# Altium schematic symbol library integrated_circuits_schematic.SchLib: 128 symbols (part 4 of 5)
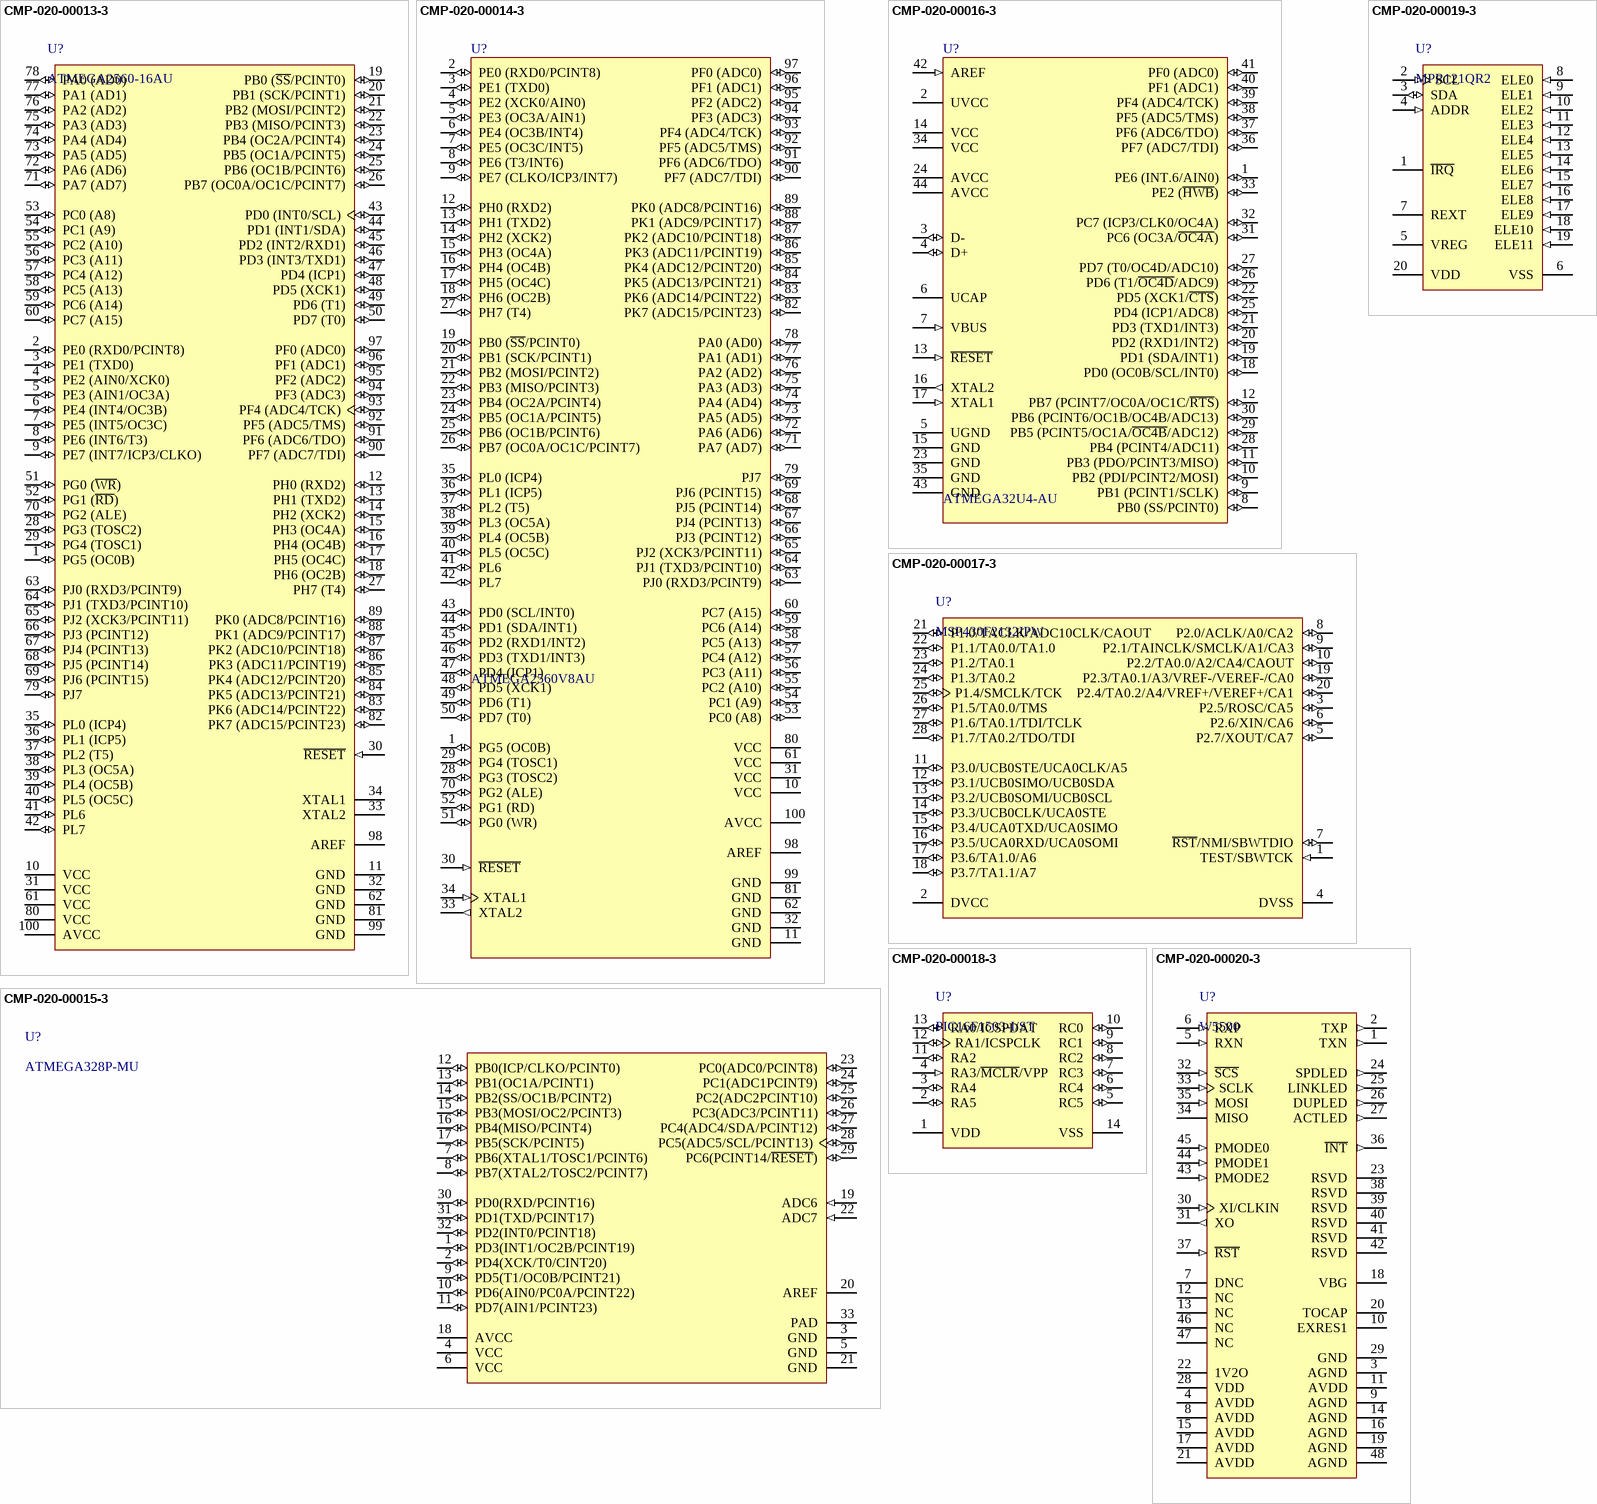
[diagram p10: symbols CMP-020-00013-3 to CMP-020-00020-3]

## CMP-020-00013-3
designator U?, comment ATMEGA2560-16AU
Atmel Microcontroller with 256 KB In-System Programmable Flash, 8-Bit , 4.5 to 5.5 V, -40 to 85 degC, 100-Pin QFP, Pb-Free, Tape and Reel; Density: 256KB; Max Clock Frequency: 16MHz; PWM Channels: 12; ADC Channels: 16; Nominal Supply Voltage: 5V; Interface: USART; Max Supply Voltage: 5.5V; Min Supply Voltage: 4.5V; I/Os: 86; Ethernet Channels: 0; RAM Size: 8KB; Datasheet URL: http://www.atmel.com/images/atmel-2549-8-bit-avr-microcontroller-atmega640-1280-1281-2560-2561_summary.pdf; Package Reference: 100A; RoHS Compliant: True; Pins: 100; Min Operating Temperature: -40°C; Max Operating Temperature: 85°C; Manufacturer: Atmel; Datasheet Version: Feb-14; Frequency: 16MHz; Package Quantity: 90; Packaging: Tray; Manufacturer URL: http://www.atmel.com/; Mounting Technology: SM; USB Channels: 0; Case/Package: TQFP; Package Description: 100-Pin Thin Profile Plastic Quad Flat Package, Body 14 x 14 mm, Pitch 0.5 mm
footprint ATML-100A_N (TQFP, 100-Leads, Body 14x14mm, Pitch 0.5mm, IPC Medium Density)
footprint ATML-100A_L (TQFP, 100-Leads, Body 14x14mm, Pitch 0.5mm, IPC High Density)
footprint ATML-100A_M (TQFP, 100-Leads, Body 14x14mm, Pitch 0.5mm, IPC Low Density)
pins: 1 PG5 (OC0B) (io), 2 PE0 (RXD0/PCINT8) (io), 3 PE1 (TXD0) (io), 4 PE2 (AIN0/XCK0) (io), 5 PE3 (AIN1/OC3A) (io), 6 PE4 (INT4/OC3B) (io), 7 PE5 (INT5/OC3C) (io), 8 PE6 (INT6/T3) (io), 9 PE7 (INT7/ICP3/CLKO) (io), 10 VCC (power) "Digital supply voltage", 11 GND (power) "Ground.", 12 PH0 (RXD2) (io), 13 PH1 (TXD2) (io), 14 PH2 (XCK2) (io), 15 PH3 (OC4A) (io), 16 PH4 (OC4B) (io), 17 PH5 (OC4C) (io), 18 PH6 (OC2B) (io), 19 PB0 (~{SS}/PCINT0) (io), 20 PB1 (SCK/PCINT1) (io), 21 PB2 (MOSI/PCINT2) (io), 22 PB3 (MISO/PCINT3) (io), 23 PB4 (OC2A/PCINT4) (io), 24 PB5 (OC1A/PCINT5) (io), 25 PB6 (OC1B/PCINT6) (io), 26 PB7 (OC0A/OC1C/PCINT7) (io), 27 PH7 (T4) (io), 28 PG3 (TOSC2) (io), 29 PG4 (TOSC1) (io), 30 ~{RESET} (in) "Reset input. A low level on this pin for longer than the minimum pulse length will generate a reset, even if the clock is not running. The minimum pulse length is given in “System and Reset Characteristics” on page 360. Shorter pulses are not guaranteed to generate a reset.", 31 VCC (power) "Digital supply voltage", 32 GND (power) "Ground.", 33 XTAL2 "Output from the inverting Oscillator amplifier.", 34 XTAL1 "Input to the inverting Oscillator amplifier and input to the internal clock operating circuit.", 35 PL0 (ICP4) (io), 36 PL1 (ICP5) (io), 37 PL2 (T5) (io), 38 PL3 (OC5A) (io), 39 PL4 (OC5B) (io), 40 PL5 (OC5C) (io), 41 PL6 (io) "Port L is a 8-bit bi-directional I/O port with internal pull-up resistors (selected for each bit). The Port L output buffers have symmetrical drive characteristics with both high sink and source capability. As inputs, Port L pins that are externally pulled low will source current if the pull-up resistors are activated. The Port L pins are tri-stated when a reset condition becomes active, even if the clock is not running. Port L also serves the functions of various special features of the ATmega640/1280/2560 as listed on page 94.", 42 PL7 (io) "Port L is a 8-bit bi-directional I/O port with internal pull-up resistors (selected for each bit). The Port L output buffers have symmetrical drive characteristics with both high sink and source capability. As inputs, Port L pins that are externally pulled low will source current if the pull-up resistors are activated. The Port L pins are tri-stated when a reset condition becomes active, even if the clock is not running. Port L also serves the functions of various special features of the ATmega640/1280/2560 as listed on page 94.", 43 PD0 (INT0/SCL) (io), 44 PD1 (INT1/SDA) (io), 45 PD2 (INT2/RXD1) (io), 46 PD3 (INT3/TXD1) (io), 47 PD4 (ICP1) (io), 48 PD5 (XCK1) (io), 49 PD6 (T1) (io), 50 PD7 (T0) (io), 51 PG0 (~{WR}) (io), 52 PG1 (~{RD}) (io), 53 PC0 (A8) (io), 54 PC1 (A9) (io), 55 PC2 (A10) (io), 56 PC3 (A11) (io), 57 PC4 (A12) (io), 58 PC5 (A13) (io), 59 PC6 (A14) (io), 60 PC7 (A15) (io), 61 VCC (power) "Digital supply voltage", 62 GND (power) "Ground.", 63 PJ0 (RXD3/PCINT9) (io), 64 PJ1 (TXD3/PCINT10) (io), 65 PJ2 (XCK3/PCINT11) (io), 66 PJ3 (PCINT12) (io), 67 PJ4 (PCINT13) (io), 68 PJ5 (PCINT14) (io), 69 PJ6 (PCINT15) (io), 70 PG2 (ALE) (io), 71 PA7 (AD7) (io), 72 PA6 (AD6) (io), 73 PA5 (AD5) (io), 74 PA4 (AD4) (io), 75 PA3 (AD3) (io), 76 PA2 (AD2) (io), 77 PA1 (AD1) (io), 78 PA0 (AD0) (io), 79 PJ7 (io) "Port J is a 8-bit bi-directional I/O port with internal pull-up resistors (selected for each bit). The Port J output buffers have symmetrical drive characteristics with both high sink and source capability. As inputs, Port J pins that are externally pulled low will source current if the pull-up resistors are activated. The Port J pins are tri-stated when a reset condition becomes active, even if the clock is not running. Port J also serves the functions of various special features of the ATmega640/1280/2560 as listed on page 90.", 80 VCC (power) "Digital supply voltage", 81 GND (power) "Ground.", 82 PK7 (ADC15/PCINT23) (io), 83 PK6 (ADC14/PCINT22) (io), 84 PK5 (ADC13/PCINT21) (io), 85 PK4 (ADC12/PCINT20) (io), 86 PK3 (ADC11/PCINT19) (io), 87 PK2 (ADC10/PCINT18) (io), 88 PK1 (ADC9/PCINT17) (io), 89 PK0 (ADC8/PCINT16) (io), 90 PF7 (ADC7/TDI) (io), 91 PF6 (ADC6/TDO) (io), 92 PF5 (ADC5/TMS) (io), 93 PF4 (ADC4/TCK) (io), 94 PF3 (ADC3) (io), 95 PF2 (ADC2) (io), 96 PF1 (ADC1) (io), 97 PF0 (ADC0) (io), 98 AREF "This is the analog reference pin for the A/D Converter.", 99 GND (power) "Ground.", 100 AVCC (power) "AVCC is the supply voltage pin for Port F and the A/D Converter. It should be externally connected to VCC, even if the ADC is not used. If the ADC is used, it should be connected to VCC through a low-pass filter."

## CMP-020-00014-3
designator U?, comment ATMEGA2560V8AU
Atmel Microcontroller, 8 bit, 256 KByte, 8 MHz, 1.8 to 5.5 V, 100-Pin TQFP, RoHS, Tape and Reel; Ethernet Channels: 0; I/Os: 86; Density: 256KB; ADC Channels: 16; Interface: USART; Max Clock Frequency: 8MHz; RAM Size: 8KB; Min Supply Voltage: 1.8V; Max Supply Voltage: 5.5V; Inputs: 86; Outputs: 86; Package Reference: 100A; Manufacturer: Atmel; RoHS Compliant: True; USB Channels: 0; Mounting Technology: SM; PWM Channels: 16; Manufacturer URL: http://www.atmel.com/; Datasheet Version: Rev. 2549Q, 02/2014; Case/Package: TQFP; Packaging: Tray; Min Operating Temperature: -40°C; Clock Frequency: 8MHz; Package Quantity: 90; Package Description: 100-Pin Thin Profile Plastic Quad Flat Package, Body 14 x 14 mm, Pitch 0.5 mm; Max Operating Temperature: 85°C; Datasheet URL: http://www.atmel.com/Images/Atmel-2549-8-bit-AVR-Microcontroller-ATmega640-1280-1281-2560-2561_datasheet.pdf; Frequency: 8MHz; Pins: 100; Programmable I/O: 86
footprint ATML-100A_N (TQFP, 100-Leads, Body 14x14mm, Pitch 0.5mm, IPC Medium Density)
footprint ATML-100A_L (TQFP, 100-Leads, Body 14x14mm, Pitch 0.5mm, IPC High Density)
footprint ATML-100A_M (TQFP, 100-Leads, Body 14x14mm, Pitch 0.5mm, IPC Low Density)
pins: 1 PG5 (OC0B) (io), 2 PE0 (RXD0/PCINT8) (io), 3 PE1 (TXD0) (io), 4 PE2 (XCK0/AIN0) (io), 5 PE3 (OC3A/AIN1) (io), 6 PE4 (OC3B/INT4) (io), 7 PE5 (OC3C/INT5) (io), 8 PE6 (T3/INT6) (io), 9 PE7 (CLKO/ICP3/INT7) (io), 10 VCC (power), 11 GND (power), 12 PH0 (RXD2) (io), 13 PH1 (TXD2) (io), 14 PH2 (XCK2) (io), 15 PH3 (OC4A) (io), 16 PH4 (OC4B) (io), 17 PH5 (OC4C) (io), 18 PH6 (OC2B) (io), 19 PB0 (~{SS}/PCINT0) (io), 20 PB1 (SCK/PCINT1) (io), 21 PB2 (MOSI/PCINT2) (io), 22 PB3 (MISO/PCINT3) (io), 23 PB4 (OC2A/PCINT4) (io), 24 PB5 (OC1A/PCINT5) (io), 25 PB6 (OC1B/PCINT6) (io), 26 PB7 (OC0A/OC1C/PCINT7) (io), 27 PH7 (T4) (io), 28 PG3 (TOSC2) (io), 29 PG4 (TOSC1) (io), 30 ~{RESET} (in), 31 VCC (power), 32 GND (power), 33 XTAL2 (out), 34 XTAL1 (in), 35 PL0 (ICP4) (io), 36 PL1 (ICP5) (io), 37 PL2 (T5) (io), 38 PL3 (OC5A) (io), 39 PL4 (OC5B) (io), 40 PL5 (OC5C) (io), 41 PL6 (io), 42 PL7 (io), 43 PD0 (SCL/INT0) (io), 44 PD1 (SDA/INT1) (io), 45 PD2 (RXD1/INT2) (io), 46 PD3 (TXD1/INT3) (io), 47 PD4 (ICP1) (io), 48 PD5 (XCK1) (io), 49 PD6 (T1) (io), 50 PD7 (T0) (io), 51 PG0 (WR) (io), 52 PG1 (RD) (io), 53 PC0 (A8) (io), 54 PC1 (A9) (io), 55 PC2 (A10) (io), 56 PC3 (A11) (io), 57 PC4 (A12) (io), 58 PC5 (A13) (io), 59 PC6 (A14) (io), 60 PC7 (A15) (io), 61 VCC (power), 62 GND (power), 63 PJ0 (RXD3/PCINT9) (io), 64 PJ1 (TXD3/PCINT10) (io), 65 PJ2 (XCK3/PCINT11) (io), 66 PJ3 (PCINT12) (io), 67 PJ4 (PCINT13) (io), 68 PJ5 (PCINT14) (io), 69 PJ6 (PCINT15) (io), 70 PG2 (ALE) (io), 71 PA7 (AD7) (io), 72 PA6 (AD6) (io), 73 PA5 (AD5) (io), 74 PA4 (AD4) (io), 75 PA3 (AD3) (io), 76 PA2 (AD2) (io), 77 PA1 (AD1) (io), 78 PA0 (AD0) (io), 79 PJ7 (io), 80 VCC (power), 81 GND (power), 82 PK7 (ADC15/PCINT23) (io), 83 PK6 (ADC14/PCINT22) (io), 84 PK5 (ADC13/PCINT21) (io), 85 PK4 (ADC12/PCINT20) (io), 86 PK3 (ADC11/PCINT19) (io), 87 PK2 (ADC10/PCINT18) (io), 88 PK1 (ADC9/PCINT17) (io), 89 PK0 (ADC8/PCINT16) (io), 90 PF7 (ADC7/TDI) (io), 91 PF6 (ADC6/TDO) (io), 92 PF5 (ADC5/TMS) (io), 93 PF4 (ADC4/TCK) (io), 94 PF3 (ADC3) (io), 95 PF2 (ADC2) (io), 96 PF1 (ADC1) (io), 97 PF0 (ADC0) (io), 98 AREF (power), 99 GND (power), 100 AVCC (power)

## CMP-020-00015-3
designator U?, comment ATMEGA328P-MU
MCU, 8-Bit, ATMEGA, 20 MHz, 1.8 to 5.5 V, -40 to 85 degC, 32-Pin QFN (32M1-A), RoHS; Manufacturer: Atmel; PWM Channels: 6; Frequency: 20MHz; Interface: USART; ADC Channels: 8; USB Channels: 0; RAM Size: 2KB; Min Supply Voltage: 1.8V; Max Supply Voltage: 5.5V; Density: 32KB; Package Version: Rev. E, 05/2006; I/Os: 23; Datasheet Version: Rev. 8271E, 07/2012; Package Description: 32-Pin Quad Flat No Lead Package, Body 5 x 5 mm, Pitch 0.5 mm, 3.1 x 3.1 mm Thermal Pad; Packaging: Tray; Package Reference: 32M1-A; Mounting Technology: SM; Package Quantity: 490; Ethernet Channels: 0; Pins: 32; RoHS Compliant: True; Max Operating Temperature: 85°C; Max Clock Frequency: 20MHz; Min Operating Temperature: -40°C; Case/Package: QFN; Manufacturer URL: http://www.atmel.com/; Clock Frequency: 20MHz; Datasheet URL: https://datasheet.ciiva.com/15122/getdatasheetpartid-130574-15122492.pdf
footprint ATML-32M1-A_D2-310_N (QFN, 32-Leads, Body 5.1x5.1mm, Pitch 0.5mm, Thermal Pad 3.1x3.1mm, IPC Medium Density)
footprint ATML-32M1-A_D2-310_L (QFN, 32-Leads, Body 5.1x5.1mm, Pitch 0.5mm, Thermal Pad 3.1x3.1mm, IPC High Density)
footprint ATML-32M1-A_D2-310_M (QFN, 32-Leads, Body 5.1x5.1mm, Pitch 0.5mm, Thermal Pad 3.1x3.1mm, IPC Low Density)
pins: 1 PD3(INT1/OC2B/PCINT19) (io), 2 PD4(XCK/T0/CINT20) (io), 3 GND (power), 4 VCC (power), 5 GND (power), 6 VCC (power), 7 PB6(XTAL1/TOSC1/PCINT6) (io), 8 PB7(XTAL2/TOSC2/PCINT7) (io), 9 PD5(T1/OC0B/PCINT21) (io), 10 PD6(AIN0/PC0A/PCINT22) (io), 11 PD7(AIN1/PCINT23) (io), 12 PB0(ICP/CLKO/PCINT0) (io), 13 PB1(OC1A/PCINT1) (io), 14 PB2(SS/OC1B/PCINT2) (io), 15 PB3(MOSI/OC2/PCINT3) (io), 16 PB4(MISO/PCINT4) (io), 17 PB5(SCK/PCINT5) (io), 18 AVCC (power), 19 ADC6 (in), 20 AREF, 21 GND (power), 22 ADC7 (in), 23 PC0(ADC0/PCINT8) (io), 24 PC1(ADC1PCINT9) (io), 25 PC2(ADC2PCINT10) (io), 26 PC3(ADC3/PCINT11) (io), 27 PC4(ADC4/SDA/PCINT12) (io), 28 PC5(ADC5/SCL/PCINT13) (io), 29 PC6(PCINT14/~{RESET}) (io), 30 PD0(RXD/PCINT16) (io), 31 PD1(TXD/PCINT17) (io), 32 PD2(INT0/PCINT18) (io), 33 PAD (power)

## CMP-020-00016-3
designator U?, comment ATMEGA32U4-AU
8-bit Microcontroller with 32 Kbytes of ISP Flash and USB Controller, 2.7 to 5.5 V, -40 to 85 degC, 44-Pin QFP, Tray; Manufacturer: Atmel; Max Supply Voltage: 5.5V; RAM Size: 2.5KB; Density: 32KB; ADC Channels: 12; I/Os: 26; Frequency: 16MHz; Interface: USART; PWM Channels: 8; Package Version: Rev. J, 02/2014; Ethernet Channels: 0; Min Supply Voltage: 2.7V; Package URL: http://www.atmel.com/images/atmel-7766-8-bit-avr-atmega16u4-32u4_summary.pdf; Manufacturer URL: http://www.atmel.com/; Max Operating Temperature: 85°C; Case/Package: TQFP; Pins: 44; Package Description: 44-Pin Thin Profile Plastic Quad Flat Papckage, Body 10 x 10 mm, Pitch 0.8 mm; Package Quantity: 800; Package Reference: 44ML; RoHS Compliant: True; Mounting Technology: SM; Max Clock Frequency: 16MHz; Packaging: Tray; Datasheet URL: http://www.atmel.com/images/atmel-7766-8-bit-avr-atmega16u4-32u4_summary.pdf; Datasheet Version: Rev. 7766IS, 07/2015; Min Operating Temperature: -40°C
footprint ATML-44ML_L (TQFP, 44-Leads, Body 10x10mm, Pitch 0.8mm, IPC High Density)
footprint ATML-44ML_N (TQFP, 44-Leads, Body 10x10mm, Pitch 0.8mm, IPC Medium Density)
footprint ATML-44ML_M (TQFP, 44-Leads, Body 10x10mm, Pitch 0.8mm, IPC Low Density)
pins: 1 PE6 (INT.6/AIN0) (io), 2 UVCC (power), 3 D- (io), 4 D+ (io), 5 UGND (power), 6 UCAP, 7 VBUS (in), 8 PB0 (SS/PCINT0) (io), 9 PB1 (PCINT1/SCLK) (io), 10 PB2 (PDI/PCINT2/MOSI) (io), 11 PB3 (PDO/PCINT3/MISO) (io), 12 PB7 (PCINT7/OC0A/OC1C/~{RTS}) (io), 13 ~{RESET} (in), 14 VCC (power), 15 GND (power), 16 XTAL2 (out), 17 XTAL1 (in), 18 PD0 (OC0B/SCL/INT0) (io), 19 PD1 (SDA/INT1) (io), 20 PD2 (RXD1/INT2) (io), 21 PD3 (TXD1/INT3) (io), 22 PD5 (XCK1/~{CTS}) (io), 23 GND (power), 24 AVCC (power), 25 PD4 (ICP1/ADC8) (io), 26 PD6 (T1/~{OC4D}/ADC9) (io), 27 PD7 (T0/OC4D/ADC10) (io), 28 PB4 (PCINT4/ADC11) (io), 29 PB5 (PCINT5/OC1A/~{OC4B}/ADC12) (io), 30 PB6 (PCINT6/OC1B/OC4B/ADC13) (io), 31 PC6 (OC3A/~{OC4A}) (io), 32 PC7 (ICP3/CLK0/OC4A) (io), 33 PE2 (~{HWB}) (io), 34 VCC (power), 35 GND (power), 36 PF7 (ADC7/TDI) (io), 37 PF6 (ADC6/TDO) (io), 38 PF5 (ADC5/TMS) (io), 39 PF4 (ADC4/TCK) (io), 40 PF1 (ADC1) (io), 41 PF0 (ADC0) (io), 42 AREF (in), 43 GND (power), 44 AVCC (power)

## CMP-020-00017-3
designator U?, comment MSP430F2132IPW
Mixed Signal Microcontroller with 8 KB Flash, 512 B SRAM and 24 GPIOs, -40 to 85 degC, 28-Pin SOP (PW), Green (RoHS & no Sb/Br); Manufacturer: Texas Instruments; Interface: UART; ADC Channels: 8; USB Channels: 0; Density: 8KB; Max Supply Voltage: 3.6V; I/Os: 24; Max Clock Frequency: 16MHz; Min Supply Voltage: 1.8V; RAM Size: 512B; UART Channels: 1; Package Reference: PW0028A; Mounting Technology: SM; Manufacturer URL: http://www.ti.com/; Case/Package: TSSOP; Max Operating Temperature: 85°C; Package Quantity: 50; Pins: 28; Package URL: http://www.ti.com/lit/ml/mpds364/mpds364.pdf; Datasheet Version: SLAS578J, 01/2012; Package Description: 28-Pin Thin Shrink Small Outline Package, Body 9.7 x 4.4 mm, Pitch 0.65 mm; Frequency: 16MHz; RoHS Compliant: True; Packaging: Rail/Tube; Min Operating Temperature: -40°C; Datasheet URL: http://www.ti.com/lit/ds/symlink/msp430f2132.pdf
footprint PW0028A_L (SOP, 28-Leads, Body 9.8x4.5mm, Pitch 0.65mm, IPC High Density)
footprint PW0028A_M (SOP, 28-Leads, Body 9.8x4.5mm, Pitch 0.65mm, IPC Low Density)
footprint PW0028A_N (SOP, 28-Leads, Body 9.8x4.5mm, Pitch 0.65mm, IPC Medium Density)
pins: 1 TEST/SBWTCK (in), 2 DVCC (power) "Digital supply voltage", 3 P2.5/ROSC/CA5 (io), 4 DVSS (power) "Digital supply voltage", 5 P2.7/XOUT/CA7 (io), 6 P2.6/XIN/CA6 (io), 7 ~{RST}/NMI/SBWTDIO (io), 8 P2.0/ACLK/A0/CA2 (io), 9 P2.1/TAINCLK/SMCLK/A1/CA3 (io), 10 P2.2/TA0.0/A2/CA4/CAOUT (io), 11 P3.0/UCB0STE/UCA0CLK/A5 (io), 12 P3.1/UCB0SIMO/UCB0SDA (io), 13 P3.2/UCB0SOMI/UCB0SCL (io), 14 P3.3/UCB0CLK/UCA0STE (io), 15 P3.4/UCA0TXD/UCA0SIMO (io), 16 P3.5/UCA0RXD/UCA0SOMI (io), 17 P3.6/TA1.0/A6 (io), 18 P3.7/TA1.1/A7 (io), 19 P2.3/TA0.1/A3/VREF-/VEREF-/CA0 (io), 20 P2.4/TA0.2/A4/VREF+/VEREF+/CA1 (io), 21 P1.0/TACLK/ADC10CLK/CAOUT (io), 22 P1.1/TA0.0/TA1.0 (io), 23 P1.2/TA0.1 (io), 24 P1.3/TA0.2 (io), 25 P1.4/SMCLK/TCK (io), 26 P1.5/TA0.0/TMS (io), 27 P1.6/TA0.1/TDI/TCLK (io), 28 P1.7/TA0.2/TDO/TDI (io)

## CMP-020-00018-3
designator U?, comment PIC16F1503-I/ST
Flash, 8-Bit Microcontroller, 20 MHz, 2.3 to 5.5 V, -40 to 85 degC, 14-pin TSSOP (ST14), RoHS, Tube; Manufacturer: Microchip; PWM Channels: 4; USB Channels: 0; Power: 800mW; Frequency: 20MHz; Min Supply Voltage: 2.3V; Ethernet Channels: 1; Density: 3.5KB; Programmable I/O: 12; Max Supply Voltage: 5.5V; Interface: SPI; RAM Size: 128B; Package Version: C04-087C, 10/2016; ADC Channels: 10; Pins: 14; Package Description: 14-Lead Thin Shrink Small Outline Package, 5 x 4.4 mm Body, 0.65 mm Pitch; Package URL: http://www.microchip.com/stellent/groups/techpub_sg/documents/packagingspec/en012702.pdf; Package Reference: TSSOP-ST14; Mounting Technology: SM; Datasheet Version: Rev. A, 09/2011; Datasheet URL: http://ww1.microchip.com/downloads/en/DeviceDoc/41607A.pdf; Case/Package: TSSOP; Manufacturer URL: http://www.microchip.com/; I/Os: 12; Max Operating Temperature: 85°C; Max Clock Frequency: 20MHz; RoHS Compliant: True; Packaging: Rail/Tube; Min Operating Temperature: -40°C
footprint MCHP-TSSOP-ST14_V (TSSOP, 14-Leads, Body 5.1x4.5mm, Pitch 0.65mm)
pins: 1 VDD (power) "Positive supply", 2 RA5 (io), 3 RA4 (io), 4 RA3/~{MCLR}/VPP (in), 5 RC5 (io), 6 RC4 (io), 7 RC3 (io), 8 RC2 (io), 9 RC1 (io), 10 RC0 (io), 11 RA2 (io), 12 RA1/ICSPCLK (io), 13 RA0/ICSPDAT (io), 14 VSS (power) "Ground reference."

## CMP-020-00019-3
designator U?, comment MPR121QR2
Proximity Capacitive Touch Sensor Controller, 1.71 to 3.6 V, -40 to 85 degC, 20-Pin QFN, RoHS, Tape and Reel; Manufacturer: Freescale; Max Supply Voltage: 3.6V; Min Supply Voltage: 1.71V; Nominal Supply Voltage: 2.5V; Interface: I2C; Load Capacitance: 400pF; Manufacturer URL: http://www.nxp.com/; Min Operating Temperature: -40°C; Max Operating Temperature: 85°C; RoHS Compliant: True; Datasheet URL: http://www.nxp.com/files/sensors/doc/data_sheet/MPR121.pdf; Case/Package: QFN; Packaging: CutTape; Mounting Technology: SM; Package Quantity: 1; Datasheet Version: Rev. 4, 02/2013; Package Description: 20-Pin Quad Flat No-lead Package, Body 3 x 3 mm, Pitch 0.4 mm; Package Reference: QFN-20; Pins: 20
footprint FREE-QFN-20_L (QFN, 20-Leads, Body 3x3mm, Pitch 0.4mm, IPC High Density)
footprint FREE-QFN-20_M (QFN, 20-Leads, Body 3x3mm, Pitch 0.4mm, IPC Low Density)
footprint FREE-QFN-20_N (QFN, 20-Leads, Body 3x3mm, Pitch 0.4mm, IPC Medium Density)
pins: 1 ~{IRQ} (oc) "Open Collector Interrupt Output Pin, active low", 2 SCL (in) "I2C Clock", 3 SDA (io) "I2C Data", 4 ADDR (in) "I2C Address Select Input Pin.", 5 VREG (power) "Internal Regulator Node - Connect a 0.1 uF bypass cap to VSS", 6 VSS (power) "Ground", 7 REXT "External Resistor - Connect a 75 kOhm 1% resistor to VSS to set internal reference current", 8 ELE0 (in) "Electrode 0", 9 ELE1 (in) "Electrode 1", 10 ELE2 (in) "Electrode 2", 11 ELE3 (in) "Electrode 3", 12 ELE4 (in) "Electrode 4", 13 ELE5 (in) "Electrode 5", 14 ELE6 (in) "Electrode 6", 15 ELE7 (in) "Electrode 7", 16 ELE8 (in) "Electrode 8", 17 ELE9 (in) "Electrode 9", 18 ELE10 (in) "Electrode 10", 19 ELE11 (in) "Electrode 11", 20 VDD (power) "Connect a 0.1 uF bypass cap to VSS"

## CMP-020-00020-3
designator U?, comment W5500
Hardwired TCP/IP Embedded Ethernet Controller, 3.3 V, 25 MHz, -40 to 85 degC, 48-Pin LQFP, RoHS, Tray; Manufacturer: WIZnet; Interface: SPI; Min Supply Voltage: 2.97V; Max Supply Voltage: 3.63V; Package Quantity: 250; Package Description: 48-Pin Low-profile Quad Flat Package, Body 7.00 x 7.00 mm, Pitch 0.50 mm; Package Reference: LQFP-48; Case/Package: LQFP; RoHS Compliant: True; Mounting Technology: SM; Datasheet URL: http://wizwiki.net/wiki/lib/exe/fetch.php?media=products:w5500:w5500_ds_v106e_141230.pdf; Manufacturer URL: http://www.wiznet.co.kr/; Packaging: Tray; Min Operating Temperature: -40°C; Pins: 48; Datasheet Version: Rev. 1.0.6, 12/2014; Max Operating Temperature: 85°C
footprint WIZ-W5500-LQFP-48_M (LQFP, 48-Leads, Body 7.00x7.00mm, Pitch 0.50mm, IPC Low Density)
footprint WIZ-W5500-LQFP-48_N (LQFP, 48-Leads, Body 7.00x7.00mm, Pitch 0.50mm, IPC Medium Density)
footprint WIZ-W5500-LQFP-48_L (LQFP, 48-Leads, Body 7.00x7.00mm, Pitch 0.50mm, IPC High Density)
pins: 1 TXN (out) "TXP/TXN Signal Pair", 2 TXP (out) "TXP/TXN Signal Pair", 3 AGND (power) "Analog ground", 4 AVDD (power) "Analog 3.3V power", 5 RXN (in) "RXP/RXN Signal Pair", 6 RXP (in) "RXP/RXN Signal Pair", 7 DNC "Do Not Connect Pin", 8 AVDD (power) "Analog 3.3V power", 9 AGND (power) "Analog ground", 10 EXRES1 "External Reference Resistor", 11 AVDD (power) "Analog 3.3V power", 12 NC "Not connected", 13 NC "Not connected", 14 AGND (power) "Analog ground", 15 AVDD (power) "Analog 3.3V power", 16 AGND (power) "Analog ground", 17 AVDD (power) "Analog 3.3V power", 18 VBG "Band Gap Output Voltage, This pin will be measured as 1.2V at 25 degC. It must be left floating.", 19 AGND (power) "Analog ground", 20 TOCAP "External Reference Capacitor, This pin must be connected to a 4.7uF capacitor. The trace length to capacitor should be short to stabilize the internal signals.", 21 AVDD (power) "Analog 3.3V power", 22 1V2O (power) "1.2V Regulator output voltage", 23 RSVD "It must be tied to GND.", 24 SPDLED (out) "Speed LED, This shows the Speed status of the connected link.", 25 LINKLED (out) "Link LED, This shows the Link status.", 26 DUPLED (out) "Duplex LED, This shows the Duplex status for the connected link.", 27 ACTLED (out) "Active LED, This shows that there is Carrier sense (CRS) from the active Physical Medium Sub-layer (PMD) during TX or RX activity.", 28 VDD (power) "Digital 3.3V Power", 29 GND (power) "Digital Ground", 30 XI/CLKIN (in) "Crystal input / External Clock input", 31 XO (out) "Crystal output, External 25MHz Crystal Output", 32 ~{SCS} (in) "Chip Select for SPI bus, This pin can be asserted low to select W5500 in SPI interface.", 33 SCLK (in) "SPI clock input, This pin is used to receive SPI Clock from SPI master.", 34 MISO (hiz) "SPI master input slave(W5500) output", 35 MOSI (in) "SPI master output slave(W5500) input", 36 ~{INT} (out) "Interrupt output", 37 ~{RST} (in) "Reset, RESET should be held low at least 500 us for W5500 reset.", 38 RSVD "Not connected", 39 RSVD "Not connected", 40 RSVD "Not connected", 41 RSVD "Not connected", 42 RSVD "Not connected", 43 PMODE2 (in) "PHY Operation mode select pin", 44 PMODE1 (in) "PHY Operation mode select pin", 45 PMODE0 (in) "PHY Operation mode select pin", 46 NC "Not connected", 47 NC "Not connected", 48 AGND (power) "Analog ground"

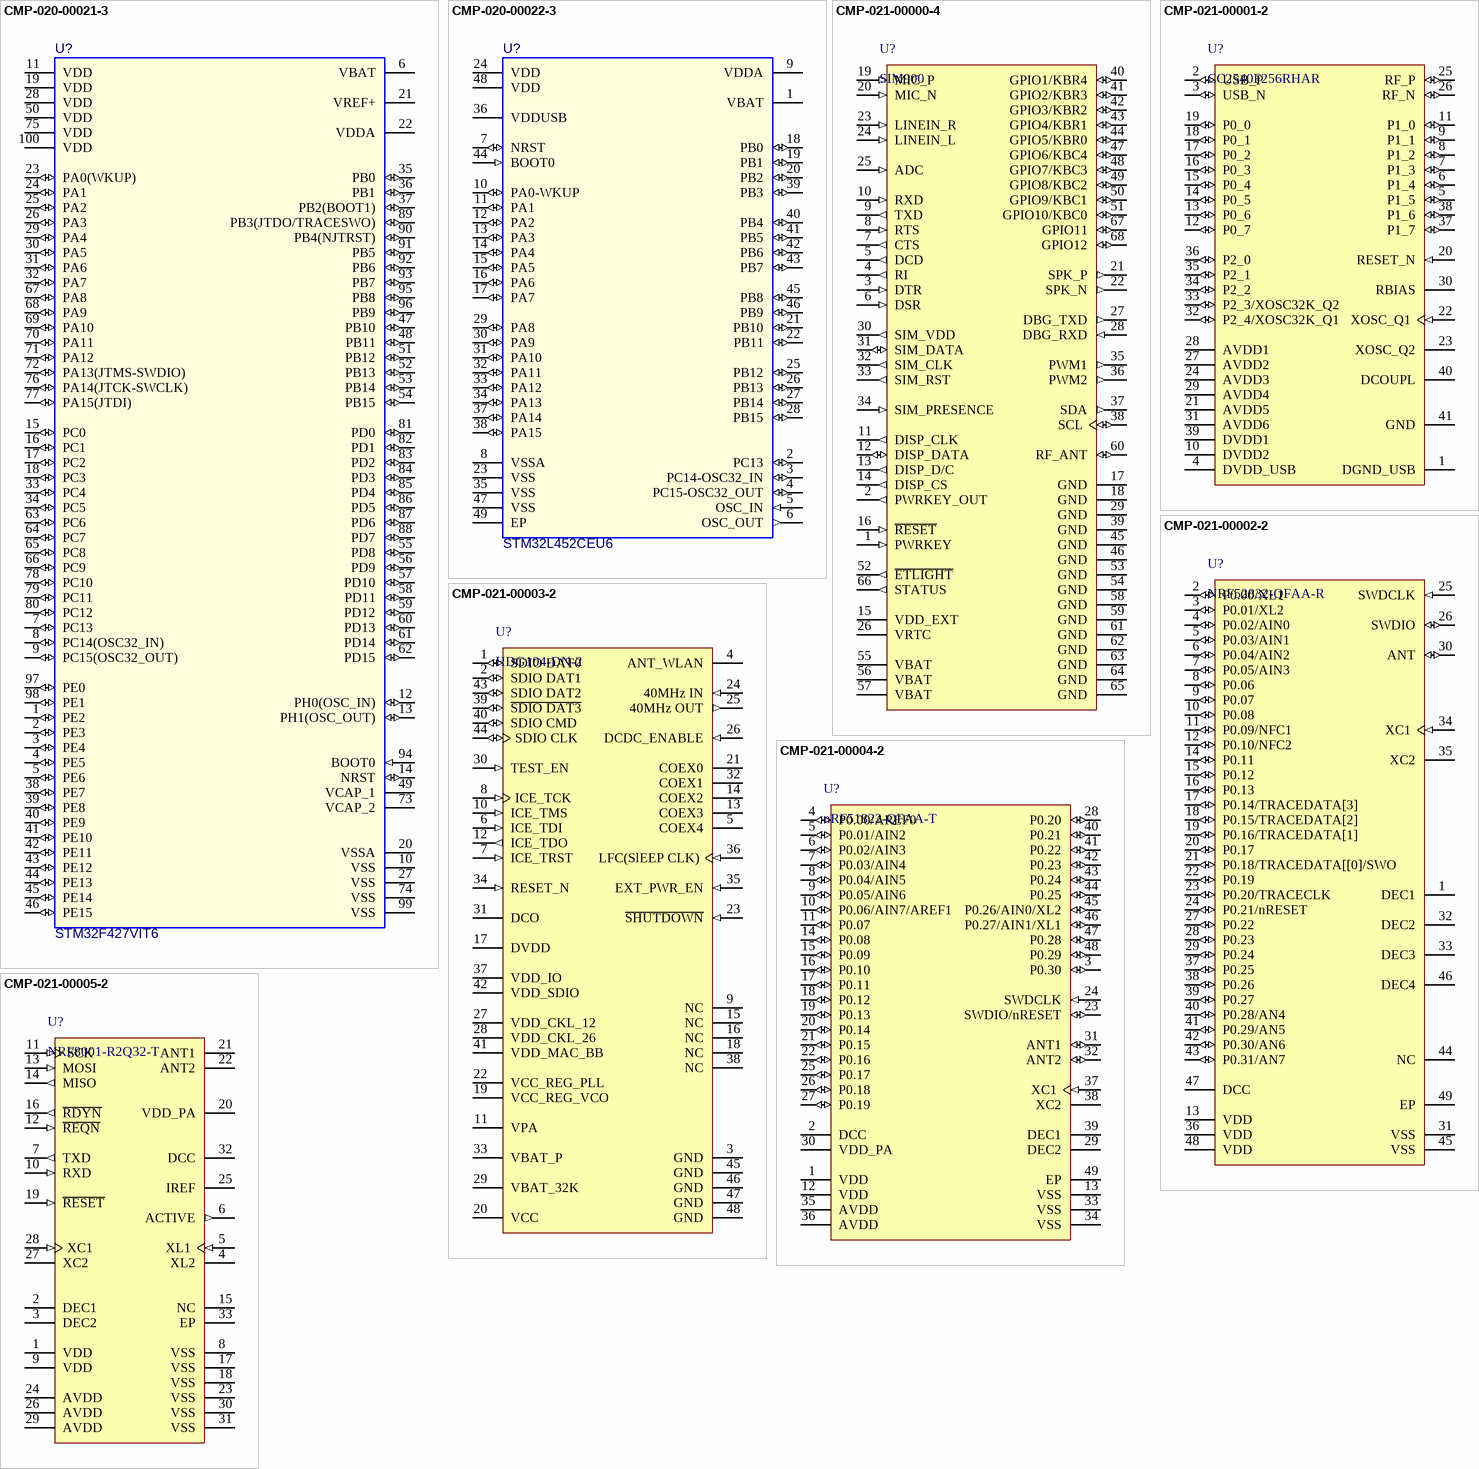
[diagram p6: symbols CMP-020-00021-3 to CMP-021-00005-2]

## CMP-020-00021-3
designator U?, comment STM32F427VIT6
ARM Cortex-M4 32-bit MCU+FPU, 2048 KB Flash, 256 KB Internal RAM, 82 I/Os, 100-Pin LQFP, -40 to 85 degC, Tape and Reel; RAM Size: 256; Min Supply Voltage: 1.7V; ComponentLink2Description: Datasheet; Mounting Technology: Surface Mount; Pins: 100; ComponentLink1Description: Manufacturer URL; ComponentLink2URL: http://www.st.com/st-web-ui/static/active/en/resource/technical/document/datasheet/DM00071990.pdf; ComponentLink1URL: http://www.st.com/
footprint STM-LQFP100 (Thin QFP, 100-Leads, Body 14x14mm, Pitch 0.5mm, IPC High Density)
footprint STM-LQFP100
pins: 1 PE2 (io) "PE2/TRACECLK,SPI4_SCK,SAI1_MCLK_A,ETH_MII_TXD3,FMC_A23,EVENTOUT", 2 PE3 (io) "PE3/TRACED0,SAI1_SD_B,FMC_A19,EVENTOUT", 3 PE4 (io) "PE4/TRACED1,SPI4_NSS,SAI1_FS_A,FMC_A20,DCMI_D4,LCD_B0,EVENTOUT", 4 PE5 (io) "PE5/TRACED2,TIM9_CH1,SPI4_MISO,SAI1_SCK_A,FMC_A21,DCMI_D6,LCD_G0,EVENTOUT", 5 PE6 (io) "PE6/TRACED3,TIM9_CH2,SPI4_MOSI,SAI1_SD_A,FMC_A22,DCMI_D7,LCD_G1,EVENTOUT", 6 VBAT (power), 7 PC13 (io) "PC13/EVENTOUT/TAMP_1", 8 PC14(OSC32_IN) (io) "PC14-OSC32_IN(PC14)/EVENTOUT/OSC32_IN", 9 PC15(OSC32_OUT) (io) "PC15-OSC32_OUT(PC15)/EVENTOUT/OSC32_OUT", 10 VSS (power), 11 VDD (power), 12 PH0(OSC_IN) (io) "PH0-OSC_IN(PH0)/EVENTOUT/OSC_IN", 13 PH1(OSC_OUT) (io) "PH1-OSC_OUT(PH1)/EVENTOUT/OSC_OUT", 14 NRST (io), 15 PC0 (io) "PC0/OTG_HS_ULPI_STP,FMC_SDNWE,EVENTOUT/ADC123_IN10", 16 PC1 (io) "PC1/ETH_MDC,EVENTOUT/ADC123_IN11", 17 PC2 (io) "PC2/SPI2_MISO,I2S2EXT_SD,OTG_HS_ULPI_DIR,ETH_MII_TXD2,FMC_SDNE0,EVENTOUT/ADC123_IN12", 18 PC3 (io) "PC3/SPI2_MOSI/I2S2_SD,OTG_HS_ULPI_NXT,ETH_MII_TX_CLK,FMC_SDCKE0,EVENTOUT/ADC123_IN13", 19 VDD (power), 20 VSSA (power), 21 VREF+ (power), 22 VDDA (power), 23 PA0(WKUP) (io) "PA0-WKUP(PA0)/TIM2_CH1/TIM2_ETR,TIM5_CH1,TIM8_ETR,USART2_CTS,UART4_TX,ETH_MII_CRS,EVENTOUT/ADC123_IN0/WKUP", 24 PA1 (io) "PA1/TIM2_CH2,TIM5_CH2,USART2_RTS,UART4_RX,ETH_MII_RX_CLK/ETH_RMII_REF_CLK,EVENTOUT/ADC123_IN1", 25 PA2 (io) "PA2/TIM2_CH3,TIM5_CH3,TIM9_CH1,USART2_TX,ETH_MDIO,EVENTOUT/ADC123_IN2", 26 PA3 (io) "PA3/TIM2_CH4,TIM5_CH4,TIM9_CH2,USART2_RX,OTG_HS_ULPI_D0,ETH_MII_COL,LCD_B5,EVENTOUT/ADC123_IN3", 27 VSS (power), 28 VDD (power), 29 PA4 (io) "PA4/SPI1_NSS,SPI3_NSS/I2S3_WS,USART2_CK,OTG_HS_SOF,DCMI_HSYNC,LCD_VSYNC,EVENTOUT/ADC12_IN4/DAC_OUT1", 30 PA5 (io) "PA5/TIM2_CH1/TIM2_ETR,TIM8_CH1N,SPI1_SCK,OTG_HS_ULPI_CK,EVENTOUT/ADC12_IN5/DAC_OUT2", 31 PA6 (io) "PA6/TIM1_BKIN,TIM3_CH1,TIM8_BKIN,SPI1_MISO,TIM13_CH1,DCMI_PIXCLK,LCD_G2,EVENTOUT/ADC12_IN6", 32 PA7 (io) "PA7/TIM1_CH1N,TIM3_CH2,TIM8_CH1N,SPI1_MOSI,TIM14_CH1,ETH_MII_RX_DV/ETH_RMII_CRS_DV,EVENTOUT/ADC12_IN7", 33 PC4 (io) "PC4/ETH_MII_RXD0/ETH_RMII_RXD0,EVENTOUT/ADC12_IN14", 34 PC5 (io) "PC5/ETH_MII_RXD1/ETH_RMII_RXD1,EVENTOUT/ADC12_IN15", 35 PB0 (io) "PB0/TIM1_CH2N,TIM3_CH3,TIM8_CH2N,LCD_R3,OTG_HS_ULPI_D1,ETH_MII_RXD2,EVENTOUT/ADC12_IN8", 36 PB1 (io) "PB1/TIM1_CH3N,TIM3_CH4,TIM8_CH3N,LCD_R6,OTG_HS_ULPI_D2,ETH_MII_RXD3,EVENTOUT/ADC12_IN9", 37 PB2(BOOT1) (io) "PB2-BOOT1(PB2)/EVENTOUT", 38 PE7 (io) "PE7/TIM1_ETR,UART7_RX,FMC_D4,EVENTOUT", 39 PE8 (io) "PE8/TIM1_CH1N,UART7_TX,FMC_D5,EVENTOUT", 40 PE9 (io) "PE9/TIM1_CH1,FMC_D6,EVENTOUT", 41 PE10 (io) "PE10/TIM1_CH2N,FMC_D7,EVENTOUT", 42 PE11 (io) "PE11/TIM1_CH2,SPI4_NSS,FMC_D8,LCD_G3,EVENTOUT", 43 PE12 (io) "PE12/TIM1_CH3N,SPI4_SCK,FMC_D9,LCD_B4,EVENTOUT", 44 PE13 (io) "PE13/TIM1_CH3,SPI4_MISO,FMC_D10,LCD_DE,EVENTOUT", 45 PE14 (io) "PE14/TIM1_CH4,SPI4_MOSI,FMC_D11,LCD_CLK,EVENTOUT", 46 PE15 (io) "PE15/TIM1_BKIN,FMC_D12,LCD_R7,EVENTOUT", 47 PB10 (io) "PB10/TIM2_CH3,I2C2_SCL,SPI2_SCK/I2S2_CK,USART3_TX,OTG_HS_ULPI_D3,ETH_MII_RX_ER,LCD_G4,EVENTOUT", 48 PB11 (io) "PB11/TIM2_CH4,I2C2_SDA,USART3_RX,OTG_HS_ULPI_D4,ETH_MII_TX_EN/ETH_RMII_TX_EN,LCD_G5,EVENTOUT", 49 VCAP_1, 50 VDD (power), 51 PB12 (io) "PB12/TIM1_BKIN,I2C2_SMBA,SPI2_NSS/I2S2_WS,USART3_CK,CAN2_RX,OTG_HS_ULPI_D5,ETH_MII_TXD0/ETH_RMII_TXD0,OTG_HS_ID,EVENTOUT", 52 PB13 (io) "PB13/TIM1_CH1N,SPI2_SCK/I2S2_CK,USART3_CTS,CAN2_TX,OTG_HS_ULPI_D6,ETH_MII_TXD1/ETH_RMII_TXD1,EVENTOUT/OTG_HS_VBUS", 53 PB14 (io) "PB14/TIM1_CH2N,TIM8_CH2N,SPI2_MISO,I2S2EXT_SD,USART3_RTS,TIM12_CH1,OTG_HS_DM,EVENTOUT", 54 PB15 (io) "PB15/RTC_REFIN,TIM1_CH3N,TIM8_CH3N,SPI2_MOSI/I2S2_SD,TIM12_CH2,OTG_HS_DP,EVENTOUT", 55 PD8 (io) "PD8/USART3_TX,FMC_D13,EVENTOUT", 56 PD9 (io) "PD9/USART3_RX,FMC_D14,EVENTOUT", 57 PD10 (io) "PD10/USART3_CK,FMC_D15,LCD_B3,EVENTOUT", 58 PD11 (io) "PD11/USART3_CTS,FMC_A16,EVENTOUT", 59 PD12 (io) "PD12/TIM4_CH1,USART3_RTS,FMC_A17,EVENTOUT", 60 PD13 (io) "PD13/TIM4_CH2,FMC_A18,EVENTOUT", 61 PD14 (io) "PD14/TIM4_CH3,FMC_D0,EVENTOUT", 62 PD15 (io) "PD15/TIM4_CH4,FMC_D1,EVENTOUT", 63 PC6 (io) "PC6/TIM3_CH1,TIM8_CH1,I2S2_MCK,USART6_TX,SDIO_D6,DCMI_D0,LCD_HSYNC,EVENTOUT", 64 PC7 (io) "PC7/TIM3_CH2,TIM8_CH2,I2S3_MCK,USART6_RX,SDIO_D7,DCMI_D1,LCD_G6,EVENTOUT", 65 PC8 (io) "PC8/TIM3_CH3,TIM8_CH3,USART6_CK,SDIO_D0,DCMI_D2,EVENTOUT", 66 PC9 (io) "PC9/MCO2,TIM3_CH4,TIM8_CH4,I2C3_SDA,I2S_CKIN,SDIO_D1,DCMI_D3,EVENTOUT", 67 PA8 (io) "PA8/MCO1,TIM1_CH1,I2C3_SCL,USART1_CK,OTG_FS_SOF,LCD_R6,EVENTOUT", 68 PA9 (io) "PA9/TIM1_CH2,I2C3_SMBA,USART1_TX,DCMI_D0,EVENTOUT/OTG_FS_VBUS", 69 PA10 (io) "PA10/TIM1_CH3,USART1_RX,OTG_FS_ID,DCMI_D1,EVENTOUT", 70 PA11 (io) "PA11/TIM1_CH4,USART1_CTS,CAN1_RX,LCD_R4,OTG_FS_DM,EVENTOUT", 71 PA12 (io) "PA12/TIM1_ETR,USART1_RTS,CAN1_TX,LCD_R5,OTG_FS_DP,EVENTOUT", 72 PA13(JTMS-SWDIO) (io) "PA13(JTMS-SWDIO)/JTMS-SWDIO,EVENTOUT", 73 VCAP_2, 74 VSS (power), 75 VDD (power), 76 PA14(JTCK-SWCLK) (io) "PA14(JTCK-SWCLK)/JTCK-SWCLK/EVENTOUT", 77 PA15(JTDI) (io) "PA15(JTDI)/JTDI,TIM2_CH1/TIM2_ETR,SPI1_NSS,SPI3_NSS/I2S3_WS,EVENTOUT", 78 PC10 (io) "PC10/SPI3_SCK/I2S3_CK,USART3_TX,UART4_TX,SDIO_D2,DCMI_D8,LCD_R2,EVENTOUT", 79 PC11 (io) "PC11/I2S3EXT_SD,SPI3_MISO,USART3_RX,UART4_RX,SDIO_D3,DCMI_D4,EVENTOUT", 80 PC12 (io) "PC12/SPI3_MOSI/I2S3_SD,USART3_CK,UART5_TX,SDIO_CK,DCMI_D9,EVENTOUT", 81 PD0 (io) "PD0/CAN1_RX,FMC_D2,EVENTOUT", 82 PD1 (io) "PD1/CAN1_TX,FMC_D3,EVENTOUT", 83 PD2 (io) "PD2/TIM3_ETR,UART5_RX,SDIO_CMD,DCMI_D11,EVENTOUT", 84 PD3 (io) "PD3/SPI2_SCK/I2S2_CK,USART2_CTS,FMC_CLK,DCMI_D5,LCD_G7,EVENTOUT", 85 PD4 (io) "PD4/USART2_RTS,FMC_NOE,EVENTOUT", 86 PD5 (io) "PD5/USART2_TX,FMC_NWE,EVENTOUT", 87 PD6 (io) "PD6/SPI3_MOSI/I2S3_SD,SAI1_SD_A,USART2_RX,FMC_NWAIT,DCMI_D10,LCD_B2,EVENTOUT", 88 PD7 (io) "PD7/USART2_CK,FMC_NE1/FMC_NCE2,EVENTOUT", 89 PB3(JTDO/TRACESWO) (io) "PB3(JTDO/TRACESWO)/JTDO/TRACESWO,TIM2_CH2,SPI1_SCK,SPI3_SCK/I2S3_CK,EVENTOUT", 90 PB4(NJTRST) (io) "PB4(NJTRST)/NJTRST,TIM3_CH1,SPI1_MISO,SPI3_MISO,I2S3EXT_SD,EVENTOUT", 91 PB5 (io) "PB5/TIM3_CH2,I2C1_SMBA,SPI1_MOSI,SPI3_MOSI/I2S3_SD,CAN2_RX,OTG_HS_ULPI_D7,ETH_PPS_OUT,FMC_SDCKE1,DCMI_D10,EVENTOUT", 92 PB6 (io) "PB6/TIM4_CH1,I2C1_SCL,USART1_TX,CAN2_TX,FMC_SDNE1,DCMI_D5,EVENTOUT", 93 PB7 (io) "PB7/TIM4_CH2,I2C1_SDA,USART1_RX,FMC_NL,DCMI_VSYNC,EVENTOUT", 94 BOOT0 (in) "BOOT0/VPP", 95 PB8 (io) "PB8/TIM4_CH3,TIM10_CH1,I2C1_SCL,CAN1_RX,ETH_MII_TXD3,SDIO_D4,DCMI_D6,LCD_B6,EVENTOUT", 96 PB9 (io) "PB9/TIM4_CH4,TIM11_CH1,I2C1_SDA,SPI2_NSS/I2S2_WS,CAN1_TX,SDIO_D5,DCMI_D7,LCD_B7,EVENTOUT", 97 PE0 (io) "PE0/TIM4_ETR,UART8_RX,FMC_NBL0,DCMI_D2,EVENTOUT", 98 PE1 (io) "PE1/UART8_TX,FMC_NBL1,DCMI_D3,EVENTOUT", 99 VSS (power), 100 VDD (power)

## CMP-020-00022-3
designator U?, comment STM32L452CEU6
ARM® Cortex®-M4 STM32L4 Microcontroller IC 32-Bit 80MHz 512KB (512K x 8) FLASH 48-UFQFPN (7x7); I/Os: 38; RAM Size: 160; Min Supply Voltage: 2V; ComponentLink1URL: http://www.st.com/; ComponentLink2Description: Datasheet; Mounting Technology: Surface Mount; ComponentLink2URL: http://www.st.com/st-web-ui/static/active/en/resource/technical/document/datasheet/CD00161566.pdf; Case/Package: UFQFN-48; Pins: 49; RoHS Compliant: Yes; ComponentLink1Description: Manufacturer URL
footprint STM-UFQFPN48_N (QFN, 48-Leads, Body 7.1x7.1mm, Pitch 0.5mm, Thermal Pad 5.6x5.6mm, IPC Medium Density)
footprint STM-UFQFPN48_N
pins: 1 VBAT (power), 2 PC13 (io), 3 PC14-OSC32_IN (io) "PC14/OSC32_IN", 4 PC15-OSC32_OUT (io) "PC15/OSC32_OUT", 5 OSC_IN (in) "OSC_IN/PD0", 6 OSC_OUT (out) "OSC_OUT/PD1", 7 NRST (io), 8 VSSA (power), 9 VDDA (power), 10 PA0-WKUP (io) "PA0/WKUP/USART2_CTS/ADC12_IN0/TIM2_CH1_ETR", 11 PA1 (io) "PA1/USART2_RTS/ADC12_IN1/TIM2_CH2", 12 PA2 (io) "PA2/USART2_TX/ADC12_IN2/TIM2_CH3", 13 PA3 (io) "PA3/USART2_RX/ADC12_IN3/TIM2_CH4", 14 PA4 (io) "PA4/SPI1_NSS/USART2_CK/ADC12_IN4", 15 PA5 (io) "PA5/SPI1_SCK/ADC12_IN5", 16 PA6 (io) "PA6/SPI1_MISO/ADC12_IN6/TIM3_CH1/TIM1_BKIN", 17 PA7 (io) "PA7/SPI1_MOSI/ADC12_IN7/TIM3_CH2/TIM1_CH1N", 18 PB0 (io) "PB0/ADC12_IN8/TIM3_CH3/TIM1_CH2N", 19 PB1 (io) "PB1/ADC12_IN9/TIM3_CH4/TIM1_CH3N", 20 PB2 (io) "PB2/BOOT1", 21 PB10 (io) "PB10/I2C2_SCL/USART3_TX/TIM2_CH3", 22 PB11 (io) "PB11/I2C2_SDA/USART3_RX/TIM2_CH4", 23 VSS (power), 24 VDD (power), 25 PB12 (io) "PB12/SPI2_NSS/I2C2_SMBAl/USART3_CK/TIM1_BKIN", 26 PB13 (io) "PB13/SPI2_SCK/USART3_CTS/TIM1_CH1N", 27 PB14 (io) "PB14/SPI2_MISO/USART3_RTS/TIM1_CH2N", 28 PB15 (io) "PB15/SPI2_MOSI/TIM1_CH3N", 29 PA8 (io) "PA8/USART1_CK/TIM1_CH1/MCO", 30 PA9 (io) "PA9/USART1_TX/TIM1_CH2", 31 PA10 (io) "PA10/USART1_RX/TIM1_CH3", 32 PA11 (io) "PA11/USART1_CTS/CANRX/USBDM/TIM1_CH4", 33 PA12 (io) "PA12/USART1_RTS/CANTX/USBDP/TIM1_ETR", 34 PA13 (io) "JTMS/SWDIO/PA13", 35 VSS (power), 36 VDDUSB (power), 37 PA14 (io) "JTCK/SWCLK/PA14", 38 PA15 (io) "JTDI/TIM2_CH1_ETR/PA15/SPI1_NSS", 39 PB3 (io) "JTDO/TIM2_CH2/PB3/TRACESWO/SPI1_SCK", 40 PB4 (io) "JNTRST/TIM3_CH1/PB4/SPI1_MISO", 41 PB5 (io) "PB5/ I2C1_SMBAI/TIM3_CH2/SPI1_MOSI", 42 PB6 (io) "PB6/I2C1_SCL/TIM4_CH1/USART1_TX", 43 PB7 (io) "PB7/I2C1_SDA/TIM4_CH2/USART1_RX", 44 BOOT0 (in), 45 PB8 (io) "PB8/TIM4_CH3/I2C1_SCL/CANRX", 46 PB9 (io) "PB9/TIM4_CH4/I2C1_SDA/CANTX", 47 VSS (power), 48 VDD (power), 49 EP

## CMP-021-00000-4
designator U?, comment SIM900
Quad-Band GSM / GPRS Module,  4 V, -30 to 80 degC, 68-Pin LCC; Manufacturer: Simcom; Voltage: 4V; Package Description: 68-Pin Leadless Ceramic Chip Carrier, Body 24 x 24 mm, Pitch 1 mm; Pins: 68; Datasheet URL: http://simcomm2m.com/UploadFile/TechnicalFile/SIM900_Hardware%20Design_V2.05.pdf; Package Reference: SIM900; Min Operating Temperature: -30°C; Max Operating Temperature: 80°C; Packaging: Unknown; Manufacturer URL: http://simcomm2m.com/; Case/Package: SIM900; Datasheet Version: Rev. 2.05, 08/2013; RoHS Compliant: Unknown; Mounting Technology: SM
footprint SIM-SIM900A_V (LCC, 68-Leads, Body 24x24mm, Pitch 1mm)
pins: 1 PWRKEY (in), 2 PWRKEY_OUT (out), 3 DTR (in), 4 RI (out), 5 DCD (out), 6 DSR (in), 7 CTS (out), 8 RTS (in), 9 TXD (out), 10 RXD (in), 11 DISP_CLK (out), 12 DISP_DATA (io), 13 DISP_D/C (out), 14 DISP_CS (out), 15 VDD_EXT (power), 16 ~{RESET} (in), 17 GND (power), 18 GND (power), 19 MIC_P (in), 20 MIC_N (in), 21 SPK_P (out), 22 SPK_N (out), 23 LINEIN_R (in), 24 LINEIN_L (in), 25 ADC (in), 26 VRTC (power), 27 DBG_TXD (out), 28 DBG_RXD (in), 29 GND (power), 30 SIM_VDD (out), 31 SIM_DATA (io), 32 SIM_CLK (out), 33 SIM_RST (out), 34 SIM_PRESENCE (in), 35 PWM1 (out), 36 PWM2 (out), 37 SDA (out), 38 SCL (io), 39 GND (power), 40 GPIO1/KBR4 (io), 41 GPIO2/KBR3 (io), 42 GPIO3/KBR2 (io), 43 GPIO4/KBR1 (io), 44 GPIO5/KBR0 (io), 45 GND (power), 46 GND (power), 47 GPIO6/KBC4 (io), 48 GPIO7/KBC3 (io), 49 GPIO8/KBC2 (io), 50 GPIO9/KBC1 (io), 51 GPIO10/KBC0 (io), 52 ~{ETLIGHT} (out), 53 GND (power), 54 GND (power), 55 VBAT (power), 56 VBAT (power), 57 VBAT (power), 58 GND (power), 59 GND (power), 60 RF_ANT (io), 61 GND (power), 62 GND (power), 63 GND (power), 64 GND (power), 65 GND (power), 66 STATUS (out), 67 GPIO11 (io), 68 GPIO12 (io)

## CMP-021-00001-2
designator U?, comment CC2540F256RHAR
2.4-GHz Bluetooth low Energy System-on-Chip, 256 KB, -40 to 85 degC, 40-Pin VQFN (RHA), Green (RoHS & no Sb/Br), Tape and Reel; Manufacturer: Texas Instruments (TI); Density: 128KB; RAM Size: 8KB; Max Supply Voltage: 3.6V; Min Supply Voltage: 2V; Data Rate: 1Mbps; RoHS Compliant: True; Case/Package: RHA0040J; Mounting Technology: SM; Package Quantity: 2500; Package Reference: RHA0040J; Packaging: TapeandReel; Max Operating Temperature: 85°C; Package Description: 40-Pin Quad Flat No-lead Package, Body 6 x 6 mm, Pitch 0.5 mm, Thermal Pad 4.5 x 4.5 mm; Pins: 40; Min Operating Temperature: -40°C; Datasheet URL: http://www.ti.com/lit/ds/symlink/cc2540.pdf; Datasheet Version: Apr-15; Manufacturer URL: http://www.ti.com/
footprint TI-RHA0040J_V (QFN, 40-Leads, Body 6x6mm, Pitch 0.5mm, Thermal Pad 4.5 x 4.5mm, TI Recommended)
pins: 1 DGND_USB (power) "Connect to GND", 2 USB_P (io) "USB P", 3 USB_N (io) "USB N", 4 DVDD_USB (power) "2-V-3.6-V digital power-supply connection", 5 P1_5 (io) "Port 1.5", 6 P1_4 (io) "Port 1.4", 7 P1_3 (io) "Port 1.3", 8 P1_2 (io) "Port 1.2", 9 P1_1 (io) "Port 1.1 - 20-mA drive capability", 10 DVDD2 (power) "2-V-3.6-V digital power-supply connection", 11 P1_0 (io) "Port 1.0 - 20-mA drive capability", 12 P0_7 (io) "Port 0.7", 13 P0_6 (io) "Port 0.6", 14 P0_5 (io) "Port 0.5", 15 P0_4 (io) "Port 0.4", 16 P0_3 (io) "Port 0.3", 17 P0_2 (io) "Port 0.2", 18 P0_1 (io) "Port 0.1", 19 P0_0 (io) "Port 0.0", 20 RESET_N (in) "Reset, active-low", 21 AVDD5 (power) "2-V-3.6-V analog power-supply connection", 22 XOSC_Q1 (in) "32-MHz crystal oscillator pin 1 or external-clock input", 23 XOSC_Q2 "32-MHz crystal oscillator pin 2", 24 AVDD3 (power) "2-V-3.6-V analog power-supply connection", 25 RF_P (io) "Positive RF input signal to LNA during RX. Positive RF output signal from PA during TX.", 26 RF_N (io) "Negative RF input signal to LNA during RX. Negative RF output signal from PA during TX.", 27 AVDD2 (power) "2-V-3.6-V analog power-supply connection", 28 AVDD1 (power) "2-V-3.6-V analog power-supply connection", 29 AVDD4 (power) "2-V-3.6-V analog power-supply connection", 30 RBIAS "External precision bias resistor for reference current", 31 AVDD6 (power) "2-V-3.6-V analog power-supply connection", 32 P2_4/XOSC32K_Q1 (io) "Port 2.4/32.768 kHz XOSC", 33 P2_3/XOSC32K_Q2 (io) "Port 2.3/32.768 kHz XOSC", 34 P2_2 (io) "Port 2.2", 35 P2_1 (io) "Port 2.1", 36 P2_0 (io) "Port 2.0", 37 P1_7 (io) "Port 1.7", 38 P1_6 (io) "Port 1.6", 39 DVDD1 (power) "2-V-3.6-V digital power-supply connection", 40 DCOUPL "1.8-V digital power-supply decoupling. Do not use for supplying external circuits.", 41 GND (power) "The ground pad must be connected to a solid ground plane."

## CMP-021-00002-2
designator U?, comment NRF52832-QFAA-R
Multiprotocol Bluetooth Smart, ANT/ANT+ and Proprietary System-on-Chip, 2.4 GHz, 256 KB FLASH, 1.7 to 3.6 V, -40 to 85 degC, 48-Pin QFN, RoHS, Tape and Reel; Manufacturer: Nordic Semiconductor; Mounting Technology: SM; RoHS Compliant: True; Manufacturer URL: http://www.nordicsemi.com/eng/Products/; Case/Package: QF-48; Datasheet URL: http://infocenter.nordicsemi.com/pdf/nRF52832_PS_v1.0.pdf; Package Description: 48-Pin Quad Flat No-lead Package, Body 6 x 6 mm, Pitch 0.4 mm, Thermal Pad 4.6 x 4.6 mm; Datasheet Version: Rev. 1.0, 02/2016; Package Reference: QF-48
footprint NRSC-QF-48_L (QFN, 48-Leads, Body 6.00x6.00mm, Pitch 0.40mm, Thermal Pad 4.60x4.60mm, IPC High Density)
footprint NRSC-QF-48_M (QFN, 48-Leads, Body 6.00x6.00mm, Pitch 0.40mm, Thermal Pad 4.60x4.60mm, IPC Low Density)
footprint NRSC-QF-48_N (QFN, 48-Leads, Body 6.00x6.00mm, Pitch 0.40mm, Thermal Pad 4.60x4.60mm, IPC Medium Density)
pins: 1 DEC1 "Power supply decoupling.", 2 P0.00/XL1 (io), 3 P0.01/XL2 (io), 4 P0.02/AIN0 (io), 5 P0.03/AIN1 (io), 6 P0.04/AIN2 (io), 7 P0.05/AIN3 (io), 8 P0.06 (io) "General purpose I/O pin.", 9 P0.07 (io) "General purpose I/O pin.", 10 P0.08 (io) "General purpose I/O pin.", 11 P0.09/NFC1 (io), 12 P0.10/NFC2 (io), 13 VDD (power) "Power-supply pin.", 14 P0.11 (io) "General purpose I/O pin.", 15 P0.12 (io) "General purpose I/O pin.", 16 P0.13 (io) "General purpose I/O pin.", 17 P0.14/TRACEDATA[3] (io), 18 P0.15/TRACEDATA[2] (io), 19 P0.16/TRACEDATA[1] (io), 20 P0.17 (io) "General purpose I/O pin", 21 P0.18/TRACEDATA[[0]/SWO (io), 22 P0.19 (io) "General purpose I/O pin", 23 P0.20/TRACECLK (io), 24 P0.21/nRESET (io), 25 SWDCLK (in) "Serial Wire Debug clock input for debug and programming.", 26 SWDIO (io) "Serial Wire Debug I/O for debug and programming.", 27 P0.22 (io) "General purpose I/O pin", 28 P0.23 (io) "General purpose I/O pin", 29 P0.24 (io) "General purpose I/O pin", 30 ANT (io) "Single-ended radio antenna connection.", 31 VSS (power) "Ground pin (Radio supply).", 32 DEC2 "1V3 regulator supply decoupling", 33 DEC3 "Power supply decoupling.", 34 XC1 (in) "Connection for 32 MHz crystal.", 35 XC2 "Connection for 32 MHz crystal.", 36 VDD (power) "Power-supply pin.", 37 P0.25 (io) "General purpose I/O pin", 38 P0.26 (io) "General purpose I/O pin", 39 P0.27 (io) "General purpose I/O pin", 40 P0.28/AN4 (io), 41 P0.29/AN5 (io), 42 P0.30/AN6 (io), 43 P0.31/AN7 (io), 44 NC "No connect pin. Leave unconnected.", 45 VSS (power) "Ground Pin.", 46 DEC4 "1V3 regulator supply decoupling.", 47 DCC (power) "DC/DC regulator output pin", 48 VDD (power) "Power-supply pin.", 49 EP (power) "Ground pad."

## CMP-021-00003-2
designator U?, comment HDG104-DN-2
HDG104-WiFi 802.11b+g System in Package, 3.3 V, -20 to 70 degC, 44-Pin QFN, RoHS, Tape and Reel; Manufacturer: H&D WIRELESS; Data Rate: 54Mbps; Nominal Supply Voltage: 3.3V; Pins: 48; Datasheet Version: Rev. PG5, 02/2011; Max Operating Temperature: 70°C; Package Description: 44-Pin Quad Flat No-lead Package, Body 7.7 x 7.1 mm, Pitch 0.6 mm; Packaging: TapeandReel; RoHS Compliant: True; Min Operating Temperature: -20°C; Package Quantity: 500; Case/Package: QFN; Mounting Technology: SM; Manufacturer URL: http://www.hdwireless.se/; Datasheet URL: https://datasheet.ciiva.com/46482/getdatasheetpartid-770464-46482058.pdf; Package Reference: QFN-44+4
footprint HDW-QFN-44+4_V (QFN, 44-Leads, Body 7.7x7.1mm, Pitch 0.6mm)
pins: 1 SDIO DAT0 (io) "SDIO Data 0, SDIO/SPI MISO", 2 SDIO DAT1 (io) "SDIO Data 1, SDIO/SPI IRQ", 3 GND (power) "Ground", 4 ANT_WLAN "Antenna Port (50 Ohm) for WLAN", 5 COEX4 "Do not connect", 6 ICE_TDI (in) "ICE Test Data Input, do not connect", 7 ICE_TRST (in) "ICE Test Reset, do not connect", 8 ICE_TCK (in) "ICE Test Clock, do not connect", 9 NC "Do not connect", 10 ICE_TMS (in) "ICE Test Mode Select, do not connect", 11 VPA (power) "Power supply for RF Power Amplifier", 12 ICE_TDO (out) "ICE Test Data output", 13 COEX3 "Do not connect", 14 COEX2 "Do not connect", 15 NC "Do not connect", 16 NC "Do not connect", 17 DVDD (power) "DIGITAL VDD 1.2V, de-couple with a 1uF capacitor to GND", 18 NC "Do not connect", 19 VCC_REG_VCO (power) "LDO Decoupling. Connect a 27pF capacitor to GND", 20 VCC (power) "Radio supply 3.3V, de-couple with a 1uF capacitor to GND", 21 COEX0 "Do not connect", 22 VCC_REG_PLL (power) "LDO Decoupling. Connect a 27pF capacitor to GND", 23 ~{SHUTDOWN} (in) "Shutdown pin. Active Low", 24 40MHz IN (in) "HFC Oscillator IN", 25 40MHz OUT (out) "HFC Oscillator OUT", 26 DCDC_ENABLE (in) "Connect to GND. Internal DC/DC not used", 27 VDD_CKL_12 (power) "HFC X-tal driver decoupling. Connect a 100nF capacitor to GND", 28 VDD_CKL_26 (power) "HFC PLL decoupling. Connect a 1uF capacitor to GND", 29 VBAT_32K (power) "Clock supply 3.3V. De-couple with a 100nF capacitor to GND", 30 TEST_EN (in) "Test Enable with internal pull down,. connect to GND", 31 DCO (power) "DC/DC Converter out. Leave open", 32 COEX1 "Do not connect", 33 VBAT_P (power) "Main supply 3.3V. De-couple with a 1uF capacitor to GND", 34 RESET_N (in) "Digital Reset with internal pull-up. Active Low", 35 EXT_PWR_EN (in) "External Power Control. Connect 100k resistor to GND", 36 LFC(SlEEP CLK) (in) "32KHz external clock.", 37 VDD_IO (power) "VDD_IO Supply for digital I/Os 3.3V, except SDIO domain", 38 NC "Do not connect", 39 ~{SDIO DAT3} (io) "SDIO Data 3, SDIO/SPI CARD_SELECT active low", 40 SDIO CMD (io) "SDIO Command, SDIO/SPI MOSI", 41 VDD_MAC_BB (power) "Internal 1.2V Decoupling, connect a 330nF capacitor to GND", 42 VDD_SDIO (power) "SDIO domain I/O Supply 3.3V", 43 SDIO DAT2 (io) "SDIO Data 2", 44 SDIO CLK (io) "SDIO Clock, SDIO/SPI CLK", 45 GND (power) "Ground", 46 GND (power) "Ground", 47 GND (power) "Ground", 48 GND (power) "Ground"

## CMP-021-00004-2
designator U?, comment nRF51822-QFAA-T
Multiprotocol Bluetooth 4.0 Low Energy RF SoC, 2.4 GHz, 1.8 to 3.6 V, 16 KB RAM, -25 to 75 degC, 48-Pin QFN, RoHS, Tray; Manufacturer: Nordic Semiconductor; Data Rate: 2000Kbps; Nominal Supply Voltage: 3.6V; RAM Size: 16KB; Package Description: 48-Pin Quad Flat No-lead Package, Body 6 x 6 mm, Pitch 0.4 mm, Thermal Pad 4.6 x 4.6 mm; Max Operating Temperature: 75°C; Min Operating Temperature: -25°C; Manufacturer URL: http://www.nordicsemi.com/eng/Products/; RoHS Compliant: True; Case/Package: Module; Datasheet Version: Rev. 3.1, 10/2014; Pins: 48; Mounting Technology: SM; Package Reference: QF-48; Package Quantity: 490; Packaging: Tray; Datasheet URL: http://www.nordicsemi.com/eng/content/download/13358/214991/file/nRF51822_PS%20v3.1.pdf
footprint NRSC-QF-48_L (QFN, 48-Leads, Body 6.00x6.00mm, Pitch 0.40mm, Thermal Pad 4.60x4.60mm, IPC High Density)
footprint NRSC-QF-48_M (QFN, 48-Leads, Body 6.00x6.00mm, Pitch 0.40mm, Thermal Pad 4.60x4.60mm, IPC Low Density)
footprint NRSC-QF-48_N (QFN, 48-Leads, Body 6.00x6.00mm, Pitch 0.40mm, Thermal Pad 4.60x4.60mm, IPC Medium Density)
pins: 1 VDD (power) "Power supply.", 2 DCC (power) "DC/DC output voltage to external LC filter.", 3 P0.30 (io) "General purpose I/O pin.", 4 P0.00/AREF0 (io), 5 P0.01/AIN2 (io), 6 P0.02/AIN3 (io), 7 P0.03/AIN4 (io), 8 P0.04/AIN5 (io), 9 P0.05/AIN6 (io), 10 P0.06/AIN7/AREF1 (io), 11 P0.07 (io) "General purpose I/O pin.", 12 VDD (power) "Power supply.", 13 VSS (power) "Ground (0 V)", 14 P0.08 (io) "General purpose I/O pin.", 15 P0.09 (io) "General purpose I/O pin.", 16 P0.10 (io) "General purpose I/O pin.", 17 P0.11 (io) "General purpose I/O pin.", 18 P0.12 (io) "General purpose I/O pin.", 19 P0.13 (io) "General purpose I/O pin.", 20 P0.14 (io) "General purpose I/O pin.", 21 P0.15 (io) "General purpose I/O pin.", 22 P0.16 (io) "General purpose I/O pin.", 23 SWDIO/nRESET (io), 24 SWDCLK (in) "Hardware debug and flash programming I/O.", 25 P0.17 (io) "General purpose I/O pin.", 26 P0.18 (io) "General purpose I/O pin.", 27 P0.19 (io) "General purpose I/O pin.", 28 P0.20 (io) "General purpose I/O pin.", 29 DEC2 "Power supply decoupling.", 30 VDD_PA (power) "Power supply output (+1.6 V) for on-chip RF power amp.", 31 ANT1 (io) "Differential antenna connection (TX and RX).", 32 ANT2 (io) "Differential antenna connection (TX and RX).", 33 VSS (power) "Ground (0 V).", 34 VSS (power) "Ground (0 V).", 35 AVDD (power) "Analog power supply (Radio).", 36 AVDD (power) "Analog power supply (Radio).", 37 XC1 (in) "Connection for 16/32 MHz crystal or external 16 MHz clock", 38 XC2 "Connection for 16/32 MHz crystal.", 39 DEC1 "Power supply decoupling.", 40 P0.21 (io) "General purpose I/O pin.", 41 P0.22 (io) "General purpose I/O pin.", 42 P0.23 (io) "General purpose I/O pin.", 43 P0.24 (io) "General purpose I/O pin.", 44 P0.25 (io) "General purpose I/O pin.", 45 P0.26/AIN0/XL2 (io), 46 P0.27/AIN1/XL1 (io), 47 P0.28 (io) "General purpose I/O pin.", 48 P0.29 (io) "General purpose I/O pin.", 49 EP (power)

## CMP-021-00005-2
designator U?, comment NRF8001-R2Q32-T
Single-Chip Bluetooth(R) Low Energy Solution, 1.9 to 3.6 V, -40 to 85 degC, 32-Pin QFN, RoHS, Tray; Manufacturer: Nordic Semiconductor; Max Supply Voltage: 3.6V; Data Rate: 1Mbps; Min Supply Voltage: 1.9V; Nominal Supply Voltage: 3V; Package Description: 32-Pin Quad Flat No-lead Package, Body 5 x 5 mm, Pitch 0.5 mm; Mounting Technology: SM; Datasheet Version: Rev. 1.1, 10/2012; Pins: 32; Case/Package: QFN; Min Operating Temperature: -40°C; Max Operating Temperature: 85°C; Packaging: Tray; Datasheet URL: https://datasheet.ciiva.com/4914/nrf8001-ps-v-1-1-2797-4914162.pdf; Manufacturer URL: http://www.nordicsemi.com/eng/Products/; RoHS Compliant: True; Package Quantity: 490; Package Reference: QFN-32
footprint NRSC-QFN-32_N (QFN, 32-Leads, Body 5.1x5.1mm, Pitch 0.50mm, Thermal Pad 3.6x3.6mm, IPC Medium Density)
footprint NRSC-QFN-32_L (QFN, 32-Leads, Body 5.1x5.1mm, Pitch 0.50mm, Thermal Pad 3.6x3.6mm, IPC High Density)
footprint NRSC-QFN-32_M (QFN, 32-Leads, Body 5.1x5.1mm, Pitch 0.50mm, Thermal Pad 3.6x3.6mm, IPC Low Density)
pins: 1 VDD (power) "Power supply (1.9 - 3.6V)", 2 DEC1 (power) "Regulated power supply output for decoupling purposes only.", 3 DEC2 (power) "Regulated power supply output for decoupling purposes only.", 4 XL2 "Connect to 32.768 kHz crystal oscillator.", 5 XL1 (in) "Connect to 32.768 kHz crystal oscillator or external 32.768 kHz clock reference.", 6 ACTIVE (out) "Device RF front end activity indicator.", 7 TXD (out) "UART (transmit) for Bluetooth low energy Direct Test Interface.", 8 VSS (power) "Ground (0V)", 9 VDD (power) "Power supply (1.9 - 3.6V)", 10 RXD (in) "UART (receive) for Bluetooth low energy Direct Test Interface.", 11 SCK (in) "ACI clock input.", 12 ~{REQN} (in) "ACI request pin (handshaking, active low).", 13 MOSI (in) "ACI Master Out Slave In.", 14 MISO (out) "ACI Master In Slave Out.", 15 NC "Not connected.", 16 ~{RDYN} (out) "ACI device ready indication (handshaking, active low).", 17 VSS (power) "Ground (0V)", 18 VSS (power) "Ground (0V)", 19 ~{RESET} (in) "Reset (active low)", 20 VDD_PA (power) "Regulated power supply output for on-chip RF Power amplifier.", 21 ANT1 "Differential antenna connection (TX and RX)", 22 ANT2 "Differential antenna connection (TX and RX)", 23 VSS (power) "Ground (0V)", 24 AVDD (power) "Analog power supply (1.9 - 3.6V DC)", 25 IREF "Current reference terminal.", 26 AVDD (power) "Analog power supply (1.9 - 3.6V)", 27 XC2 "Connection for 16 MHz crystal oscillator.", 28 XC1 (in) "Connection for 16 MHz crystal or external 16MHz reference.", 29 AVDD (power) "Analog power supply (1.9 - 3.6V DC)", 30 VSS (power) "Ground (0V)", 31 VSS (power) "Ground (0V)", 32 DCC (power) "Pulse Width Modulated (PWM) driver for the external LC filter if the DC/DC converter is enable.", 33 EP (power) "Ground (0V)"

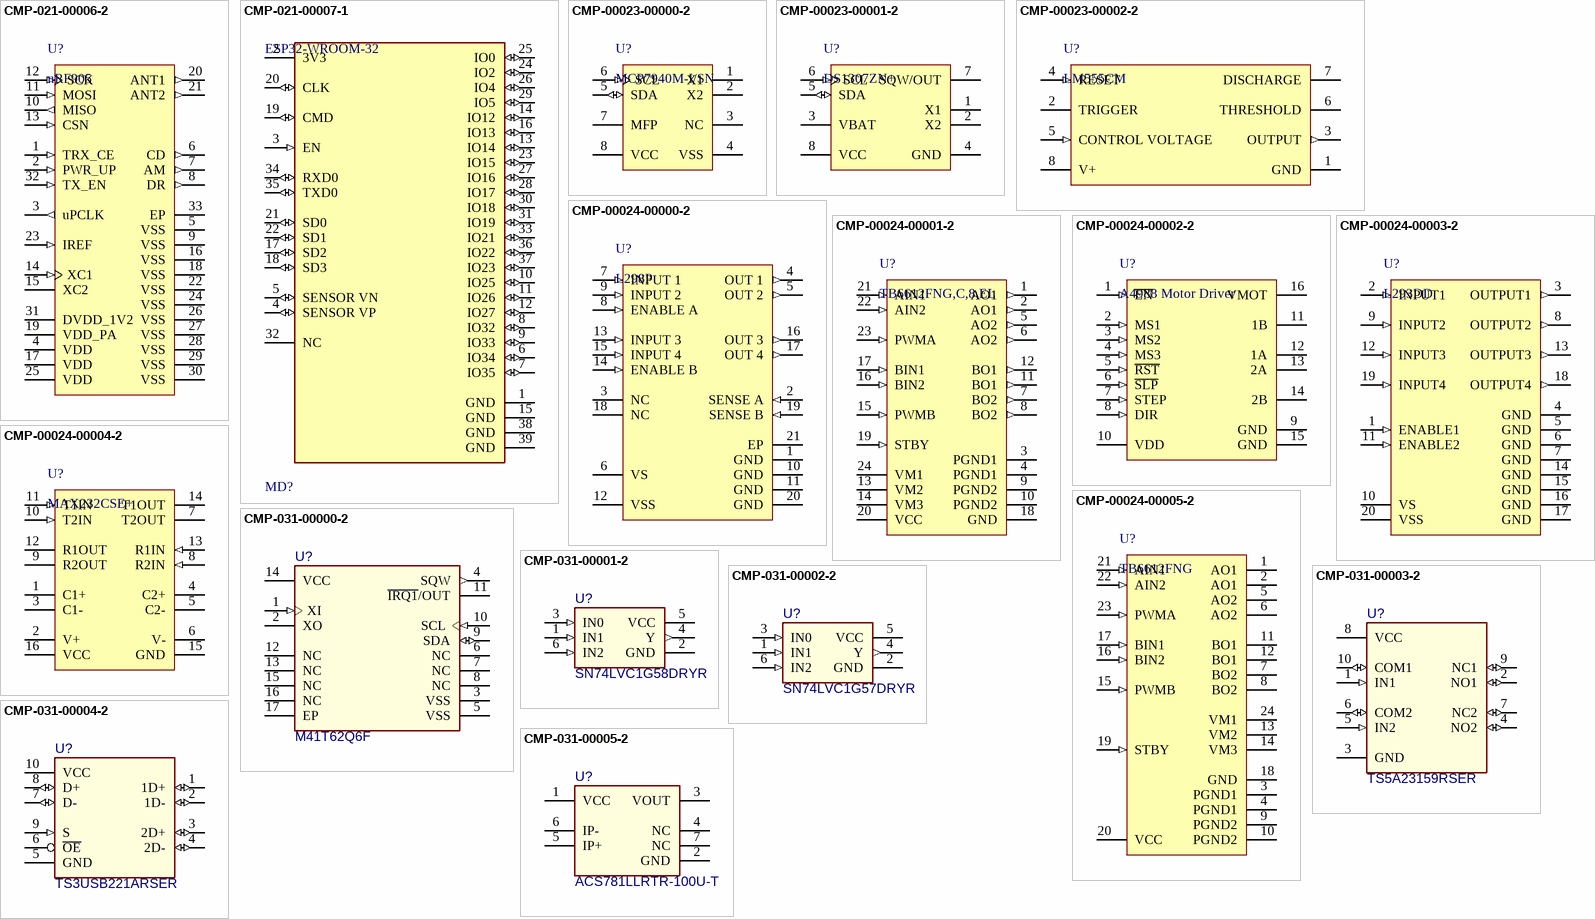
[diagram p7: symbols CMP-021-00006-2 to CMP-031-00005-2]